# Altium schematic symbol library my-library.SchLib: 2 symbols
Pins are listed as number, name and electrical type; pins without a type are passive.

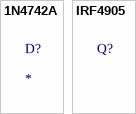
[diagram p0: symbols 1N4742A to IRF4905]

## 1N4742A
designator D?
DIODE ZENER 12V 1W

## IRF4905
designator Q?
MOSFET P-CH -55V -74A